# Altium schematic symbol library SA555DR.SchLib: 1 symbol
Pins are listed as number, name and electrical type; pins without a type are passive.

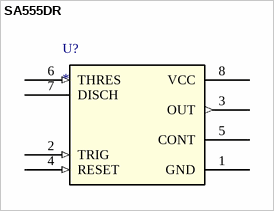
[diagram p0: symbol SA555DR]

## SA555DR
designator U?
IC OSC SGL TIMER 100KHZ 8-SOIC / Manufacturer PN: SA555DR; Manufacturer: Texas Instruments; Built_By: EMA_UL_Team; C: Copyright (C) 2015 Accelerated Designs. All rights reserved; Vendor: Vendor; Manufacturer_Part_Number: SA555DR; RefDes: RefDes; Type: DEV; Value: Value
footprint D8
pins: 1 GND (power), 2 TRIG (in), 3 OUT (out), 4 RESET (in), 5 CONT, 6 THRES (in), 7 DISCH, 8 VCC (power)